# Altium integrated library Microphone.IntLib: 1 symbol
Pins are listed as number, name and electrical type; pins without a type are passive.

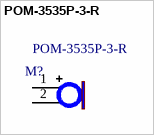
[diagram p0: symbol POM-3535P-3-R]

## POM-3535P-3-R
designator M?  MPN: POM-3535P-3-R  (hidden comment: *)
MIC COND ANALOG OMNI -35DB; MFT: PUI Audio, Inc.; VALUE: POM-3535P-3-R; TYPE: Through Hole
footprint POM-3535P-3-R
pins: 1 +, 2 -